# Altium schematic symbol library Caddock.SchLib: 1 symbol
Pins are listed as number, name and electrical type; pins without a type are passive.

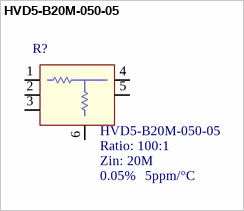
[diagram p0: symbol HVD5-B20M-050-05]

## HVD5-B20M-050-05
designator R?  Thermal: 5ppm/°C  Tolerance: 0.05%  Ratio: 100:1  Zin: 20M  (hidden comment: HVD5-B20M-050-05)
20M ohm 0.05% 5ppm Voltage Divider; Manufacturer: Caddock; Supplier 1: Digi-Key; Supplier 2: Mouser; Supplier Part Number 1: HVD5-B20M-050-05-ND; Supplier Part Number 2: 684-HVD5-B20M; PartNumber: HVD5-B20M-050-05
simulation model HVD5-B20M-050-05 (Model Description)
footprint CADDOCK - HVD5-B20M-050-05
pins: 1, 2, 3, 4, 5, 6